# Altium schematic symbol library Schlib1.SchLib: 1 symbol
Pins are listed as number, name and electrical type; pins without a type are passive.

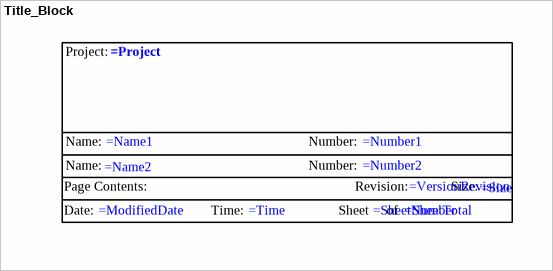
[diagram p0: symbol Title_Block]

## Title_Block
designator ?  (graphical)
text: Project:; Name:; Number:; Page Contents:; Revision:; Size:; Date:; Time:; Sheet; of